# Altium integrated library ALTIUM-WCAP-FTBE-rev17a.IntLib: 31 symbols
Pins are listed as number, name and electrical type; pins without a type are passive.

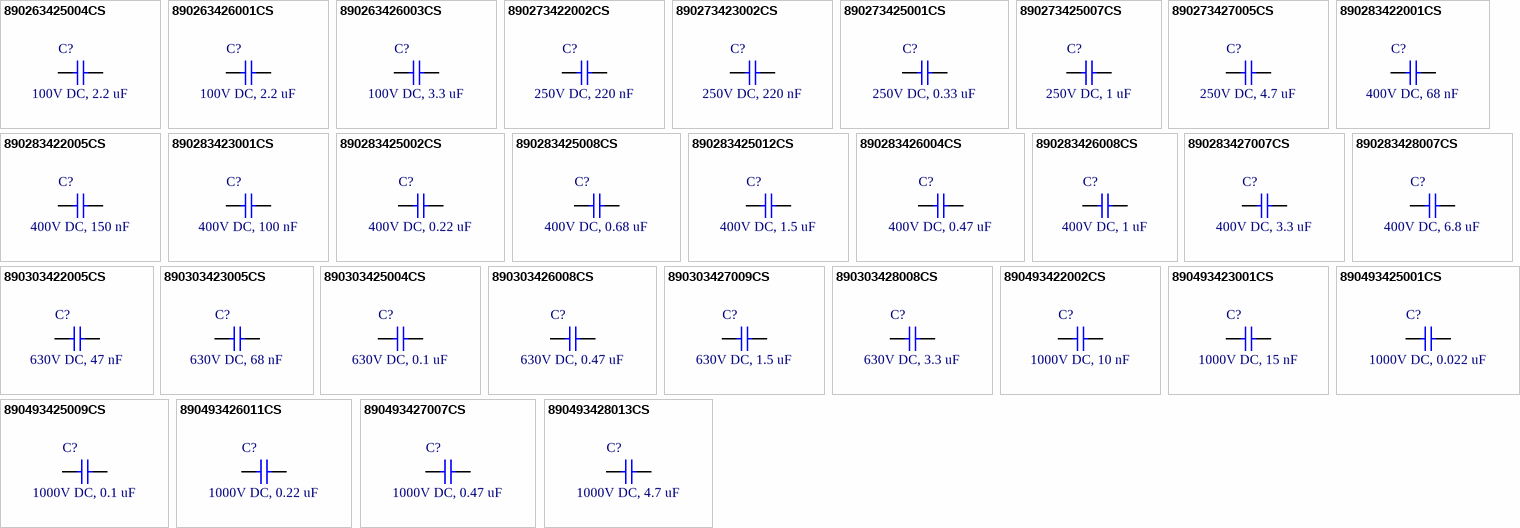
[diagram p0: symbols 890263425004CS to 890493428013CS]

## 890263425004CS
designator C?, comment 100V DC, 2.2 uF
WCAP-FTBE Film Capacitors, 18x8.5x15mm, 100V DC, 2.2 uF; Part Number: 890263425004CS; Rated Voltage: 100V DC; Value: 2.2 uF; ComponentLink1Description: Manufacturer; ComponentLink1URL: http://www.we-online.de; ComponentLink2Description: Datasheet; ComponentLink2URL: http://katalog.we-online.de/pbs/datasheet/890263425004CS.pdf; Published Date: Sep. 2017; Publisher: Wurth Elektronik; Size: 18x8.5x15mm; Operating Temperature: -40 °C to +85 °C
footprint WCAP-FTBE_18x8.5x15
pins: 1, 2

## 890263426001CS
designator C?, comment 100V DC, 2.2 uF
WCAP-FTBE Film Capacitors, 26x6x15mm, 100V DC, 2.2 uF; Part Number: 890263426001CS; Rated Voltage: 100V DC; Value: 2.2 uF; ComponentLink1Description: Manufacturer; ComponentLink1URL: http://www.we-online.de; ComponentLink2Description: Datasheet; ComponentLink2URL: http://katalog.we-online.de/pbs/datasheet/890263426001CS.pdf; Published Date: Sep. 2017; Publisher: Wurth Elektronik; Size: 26x6x15mm; Operating Temperature: -40 °C to +85 °C
footprint WCAP-FTBE_26x6x15
pins: 1, 2

## 890263426003CS
designator C?, comment 100V DC, 3.3 uF
WCAP-FTBE Film Capacitors, 26x7x16.5mm, 100V DC, 3.3 uF; Part Number: 890263426003CS; Rated Voltage: 100V DC; Value: 3.3 uF; ComponentLink1Description: Manufacturer; ComponentLink1URL: http://www.we-online.de; ComponentLink2Description: Datasheet; ComponentLink2URL: http://katalog.we-online.de/pbs/datasheet/890263426003CS.pdf; Published Date: Sep. 2017; Publisher: Wurth Elektronik; Size: 26x7x16.5mm; Operating Temperature: -40 °C to +85 °C
footprint WCAP-FTBE_26x7x16.5
pins: 1, 2

## 890273422002CS
designator C?, comment 250V DC, 220 nF
WCAP-FTBE Film Capacitors, 10.5x6x12mm, 250V DC, 220 nF; Part Number: 890273422002CS; Rated Voltage: 250V DC; Value: 220 nF; ComponentLink1Description: Manufacturer; ComponentLink1URL: http://www.we-online.de; ComponentLink2Description: Datasheet; ComponentLink2URL: http://katalog.we-online.de/pbs/datasheet/890273422002CS.pdf; Published Date: Sep. 2017; Publisher: Wurth Elektronik; Size: 10.5x6x12mm; Operating Temperature: -40 °C to +85 °C
footprint WCAP-FTBE_10.5x6x12
pins: 1, 2

## 890273423002CS
designator C?, comment 250V DC, 220 nF
WCAP-FTBE Film Capacitors, 13x5x11mm, 250V DC, 220 nF; Part Number: 890273423002CS; Rated Voltage: 250V DC; Value: 220 nF; ComponentLink1Description: Manufacturer; ComponentLink1URL: http://www.we-online.de; ComponentLink2Description: Datasheet; ComponentLink2URL: http://katalog.we-online.de/pbs/datasheet/890273423002CS.pdf; Published Date: Sep. 2017; Publisher: Wurth Elektronik; Size: 13x5x11mm; Operating Temperature: -40 °C to +85 °C
footprint WCAP-FTBE_13x5x11
pins: 1, 2

## 890273425001CS
designator C?, comment 250V DC, 0.33 uF
WCAP-FTBE Film Capacitors, 18x5x11mm, 250V DC, 0.33 uF; Part Number: 890273425001CS; Rated Voltage: 250V DC; Value: 0.33 uF; ComponentLink1Description: Manufacturer; ComponentLink1URL: http://www.we-online.de; ComponentLink2Description: Datasheet; ComponentLink2URL: http://katalog.we-online.de/pbs/datasheet/890273425001CS.pdf; Published Date: Sep. 2017; Publisher: Wurth Elektronik; Size: 18x5x11mm; Operating Temperature: -40 °C to +85 °C
footprint WCAP-FTBE_18x5x11
pins: 1, 2

## 890273425007CS
designator C?, comment 250V DC, 1 uF
WCAP-FTBE Film Capacitors, 18x7x13mm, 250V DC, 1 uF; Part Number: 890273425007CS; Rated Voltage: 250V DC; Value: 1 uF; ComponentLink1Description: Manufacturer; ComponentLink1URL: http://www.we-online.de; ComponentLink2Description: Datasheet; ComponentLink2URL: http://katalog.we-online.de/pbs/datasheet/890273425007CS.pdf; Published Date: Sep. 2017; Publisher: Wurth Elektronik; Size: 18x7x13mm; Operating Temperature: -40 °C to +85 °C
footprint WCAP-FTBE_18x7x13
pins: 1, 2

## 890273427005CS
designator C?, comment 250V DC, 4.7 uF
WCAP-FTBE Film Capacitors, 31x11x20mm, 250V DC, 4.7 uF; Part Number: 890273427005CS; Rated Voltage: 250V DC; Value: 4.7 uF; ComponentLink1Description: Manufacturer; ComponentLink1URL: http://www.we-online.de; ComponentLink2Description: Datasheet; ComponentLink2URL: http://katalog.we-online.de/pbs/datasheet/890273427005CS.pdf; Published Date: Sep. 2017; Publisher: Wurth Elektronik; Size: 31x11x20mm; Operating Temperature: -40 °C to +85 °C
footprint WCAP-FTBE_31x11x20
pins: 1, 2

## 890283422001CS
designator C?, comment 400V DC, 68 nF
WCAP-FTBE Film Capacitors, 10.5x5x11mm, 400V DC, 68 nF; Part Number: 890283422001CS; Rated Voltage: 400V DC; Value: 68 nF; ComponentLink1Description: Manufacturer; ComponentLink1URL: http://www.we-online.de; ComponentLink2Description: Datasheet; ComponentLink2URL: http://katalog.we-online.de/pbs/datasheet/890283422001CS.pdf; Published Date: Sep. 2017; Publisher: Wurth Elektronik; Size: 10.5x5x11mm; Operating Temperature: -40 °C to +85 °C
footprint WCAP-FTBE_10.5x5x11
pins: 1, 2

## 890283422005CS
designator C?, comment 400V DC, 150 nF
WCAP-FTBE Film Capacitors, 10.5x6x12mm, 400V DC, 150 nF; Part Number: 890283422005CS; Rated Voltage: 400V DC; Value: 150 nF; ComponentLink1Description: Manufacturer; ComponentLink1URL: http://www.we-online.de; ComponentLink2Description: Datasheet; ComponentLink2URL: http://katalog.we-online.de/pbs/datasheet/890283422005CS.pdf; Published Date: Sep. 2017; Publisher: Wurth Elektronik; Size: 10.5x6x12mm; Operating Temperature: -40 °C to +85 °C
footprint WCAP-FTBE_10.5x6x12
pins: 1, 2

## 890283423001CS
designator C?, comment 400V DC, 100 nF
WCAP-FTBE Film Capacitors, 13x5x11mm, 400V DC, 100 nF; Part Number: 890283423001CS; Rated Voltage: 400V DC; Value: 100 nF; ComponentLink1Description: Manufacturer; ComponentLink1URL: http://www.we-online.de; ComponentLink2Description: Datasheet; ComponentLink2URL: http://katalog.we-online.de/pbs/datasheet/890283423001CS.pdf; Published Date: Sep. 2017; Publisher: Wurth Elektronik; Size: 13x5x11mm; Operating Temperature: -40 °C to +85 °C
footprint WCAP-FTBE_13x5x11
pins: 1, 2

## 890283425002CS
designator C?, comment 400V DC, 0.22 uF
WCAP-FTBE Film Capacitors, 18x5x11mm, 400V DC, 0.22 uF; Part Number: 890283425002CS; Rated Voltage: 400V DC; Value: 0.22 uF; ComponentLink1Description: Manufacturer; ComponentLink1URL: http://www.we-online.de; ComponentLink2Description: Datasheet; ComponentLink2URL: http://katalog.we-online.de/pbs/datasheet/890283425002CS.pdf; Published Date: Sep. 2017; Publisher: Wurth Elektronik; Size: 18x5x11mm; Operating Temperature: -40 °C to +85 °C
footprint WCAP-FTBE_18x5x11
pins: 1, 2

## 890283425008CS
designator C?, comment 400V DC, 0.68 uF
WCAP-FTBE Film Capacitors, 18x8.5x15mm, 400V DC, 0.68 uF; Part Number: 890283425008CS; Rated Voltage: 400V DC; Value: 0.68 uF; ComponentLink1Description: Manufacturer; ComponentLink1URL: http://www.we-online.de; ComponentLink2Description: Datasheet; ComponentLink2URL: http://katalog.we-online.de/pbs/datasheet/890283425008CS.pdf; Published Date: Sep. 2017; Publisher: Wurth Elektronik; Size: 18x8.5x15mm; Operating Temperature: -40 °C to +85 °C
footprint WCAP-FTBE_18x8.5x15
pins: 1, 2

## 890283425012CS
designator C?, comment 400V DC, 1.5 uF
WCAP-FTBE Film Capacitors, 18x12x21mm, 400V DC, 1.5 uF; Part Number: 890283425012CS; Rated Voltage: 400V DC; Value: 1.5 uF; ComponentLink1Description: Manufacturer; ComponentLink1URL: http://www.we-online.de; ComponentLink2Description: Datasheet; ComponentLink2URL: http://katalog.we-online.de/pbs/datasheet/890283425012CS.pdf; Published Date: Sep. 2017; Publisher: Wurth Elektronik; Size: 18x12x21mm; Operating Temperature: -40 °C to +85 °C
footprint WCAP-FTBE_18x12x21
pins: 1, 2

## 890283426004CS
designator C?, comment 400V DC, 0.47 uF
WCAP-FTBE Film Capacitors, 26x6x15mm, 400V DC, 0.47 uF; Part Number: 890283426004CS; Rated Voltage: 400V DC; Value: 0.47 uF; ComponentLink1Description: Manufacturer; ComponentLink1URL: http://www.we-online.de; ComponentLink2Description: Datasheet; ComponentLink2URL: http://katalog.we-online.de/pbs/datasheet/890283426004CS.pdf; Published Date: Sep. 2017; Publisher: Wurth Elektronik; Size: 26x6x15mm; Operating Temperature: -40 °C to +85 °C
footprint WCAP-FTBE_26x6x15
pins: 1, 2

## 890283426008CS
designator C?, comment 400V DC, 1 uF
WCAP-FTBE Film Capacitors, 26x9x18mm, 400V DC, 1 uF; Part Number: 890283426008CS; Rated Voltage: 400V DC; Value: 1 uF; ComponentLink1Description: Manufacturer; ComponentLink1URL: http://www.we-online.de; ComponentLink2Description: Datasheet; ComponentLink2URL: http://katalog.we-online.de/pbs/datasheet/890283426008CS.pdf; Published Date: Sep. 2017; Publisher: Wurth Elektronik; Size: 26x9x18mm; Operating Temperature: -40 °C to +85 °C
footprint WCAP-FTBE_26x9x18
pins: 1, 2

## 890283427007CS
designator C?, comment 400V DC, 3.3 uF
WCAP-FTBE Film Capacitors, 31x15x24.5mm, 400V DC, 3.3 uF; Part Number: 890283427007CS; Rated Voltage: 400V DC; Value: 3.3 uF; ComponentLink1Description: Manufacturer; ComponentLink1URL: http://www.we-online.de; ComponentLink2Description: Datasheet; ComponentLink2URL: http://katalog.we-online.de/pbs/datasheet/890283427007CS.pdf; Published Date: Sep. 2017; Publisher: Wurth Elektronik; Size: 31x15x24.5mm; Operating Temperature: -40 °C to +85 °C
footprint WCAP-FTBE_31x15x24.5
pins: 1, 2

## 890283428007CS
designator C?, comment 400V DC, 6.8 uF
WCAP-FTBE Film Capacitors, 42x20.5x34mm, 400V DC, 6.8 uF; Part Number: 890283428007CS; Rated Voltage: 400V DC; Value: 6.8 uF; ComponentLink1Description: Manufacturer; ComponentLink1URL: http://www.we-online.de; ComponentLink2Description: Datasheet; ComponentLink2URL: http://katalog.we-online.de/pbs/datasheet/890283428007CS.pdf; Published Date: Sep. 2017; Publisher: Wurth Elektronik; Size: 42x20.5x34mm; Operating Temperature: -40 °C to +85 °C
footprint WCAP-FTBE_42x20.5x34
pins: 1, 2

## 890303422005CS
designator C?, comment 630V DC, 47 nF
WCAP-FTBE Film Capacitors, 10.5x6x12mm, 630V DC, 47 nF; Part Number: 890303422005CS; Rated Voltage: 630V DC; Value: 47 nF; ComponentLink1Description: Manufacturer; ComponentLink1URL: http://www.we-online.de; ComponentLink2Description: Datasheet; ComponentLink2URL: http://katalog.we-online.de/pbs/datasheet/890303422005CS.pdf; Published Date: Sep. 2017; Publisher: Wurth Elektronik; Size: 10.5x6x12mm; Operating Temperature: -40 °C to +85 °C
footprint WCAP-FTBE_10.5x6x12
pins: 1, 2

## 890303423005CS
designator C?, comment 630V DC, 68 nF
WCAP-FTBE Film Capacitors, 13x5.5x11mm, 630V DC, 68 nF; Part Number: 890303423005CS; Rated Voltage: 630V DC; Value: 68 nF; ComponentLink1Description: Manufacturer; ComponentLink1URL: http://www.we-online.de; ComponentLink2Description: Datasheet; ComponentLink2URL: http://katalog.we-online.de/pbs/datasheet/890303423005CS.pdf; Published Date: Sep. 2017; Publisher: Wurth Elektronik; Size: 13x5.5x11mm; Operating Temperature: -40 °C to +85 °C
footprint WCAP-FTBE_13x5.5x11
pins: 1, 2

## 890303425004CS
designator C?, comment 630V DC, 0.1 uF
WCAP-FTBE Film Capacitors, 18x6x12mm, 630V DC, 0.1 uF; Part Number: 890303425004CS; Rated Voltage: 630V DC; Value: 0.1 uF; ComponentLink1Description: Manufacturer; ComponentLink1URL: http://www.we-online.de; ComponentLink2Description: Datasheet; ComponentLink2URL: http://katalog.we-online.de/pbs/datasheet/890303425004CS.pdf; Published Date: Sep. 2017; Publisher: Wurth Elektronik; Size: 18x6x12mm; Operating Temperature: -40 °C to +85 °C
footprint WCAP-FTBE_18x6x12
pins: 1, 2

## 890303426008CS
designator C?, comment 630V DC, 0.47 uF
WCAP-FTBE Film Capacitors, 26x9x18mm, 630V DC, 0.47 uF; Part Number: 890303426008CS; Rated Voltage: 630V DC; Value: 0.47 uF; ComponentLink1Description: Manufacturer; ComponentLink1URL: http://www.we-online.de; ComponentLink2Description: Datasheet; ComponentLink2URL: http://katalog.we-online.de/pbs/datasheet/890303426008CS.pdf; Published Date: Sep. 2017; Publisher: Wurth Elektronik; Size: 26x9x18mm; Operating Temperature: -40 °C to +85 °C
footprint WCAP-FTBE_26x9x18
pins: 1, 2

## 890303427009CS
designator C?, comment 630V DC, 1.5 uF
WCAP-FTBE Film Capacitors, 31x15x24.5mm, 630V DC, 1.5 uF; Part Number: 890303427009CS; Rated Voltage: 630V DC; Value: 1.5 uF; ComponentLink1Description: Manufacturer; ComponentLink1URL: http://www.we-online.de; ComponentLink2Description: Datasheet; ComponentLink2URL: http://katalog.we-online.de/pbs/datasheet/890303427009CS.pdf; Published Date: Sep. 2017; Publisher: Wurth Elektronik; Size: 31x15x24.5mm; Operating Temperature: -40 °C to +85 °C
footprint WCAP-FTBE_31x15x24.5
pins: 1, 2

## 890303428008CS
designator C?, comment 630V DC, 3.3 uF
WCAP-FTBE Film Capacitors, 42x17x30mm, 630V DC, 3.3 uF; Part Number: 890303428008CS; Rated Voltage: 630V DC; Value: 3.3 uF; ComponentLink1Description: Manufacturer; ComponentLink1URL: http://www.we-online.de; ComponentLink2Description: Datasheet; ComponentLink2URL: http://katalog.we-online.de/pbs/datasheet/890303428008CS.pdf; Published Date: Sep. 2017; Publisher: Wurth Elektronik; Size: 42x17x30mm; Operating Temperature: -40 °C to +85 °C
footprint WCAP-FTBE_42x17x30
pins: 1, 2

## 890493422002CS
designator C?, comment 1000V DC, 10 nF
WCAP-FTBE Film Capacitors, 10.5x6x12mm, 1000V DC, 10 nF; Part Number: 890493422002CS; Value: 10 nF; ComponentLink1Description: Manufacturer; ComponentLink1URL: http://www.we-online.de; ComponentLink2Description: Datasheet; ComponentLink2URL: http://katalog.we-online.de/pbs/datasheet/890493422002CS.pdf; Published Date: Sep. 2017; Publisher: Wurth Elektronik; Rated Voltage: 1000V DC; Size: 10.5x6x12mm; Operating Temperature: -40 °C to +85 °C
footprint WCAP-FTBE_10.5x6x12
pins: 1, 2

## 890493423001CS
designator C?, comment 1000V DC, 15 nF
WCAP-FTBE Film Capacitors, 13x5x11mm, 1000V DC, 15 nF; Part Number: 890493423001CS; Value: 15 nF; ComponentLink1Description: Manufacturer; ComponentLink1URL: http://www.we-online.de; ComponentLink2Description: Datasheet; ComponentLink2URL: http://katalog.we-online.de/pbs/datasheet/890493423001CS.pdf; Published Date: Sep. 2017; Publisher: Wurth Elektronik; Rated Voltage: 1000V DC; Size: 13x5x11mm; Operating Temperature: -40 °C to +85 °C
footprint WCAP-FTBE_13x5x11
pins: 1, 2

## 890493425001CS
designator C?, comment 1000V DC, 0.022 uF
WCAP-FTBE Film Capacitors, 18x5x11mm, 1000V DC, 0.022 uF; Part Number: 890493425001CS; ComponentLink1Description: Manufacturer; ComponentLink1URL: http://www.we-online.de; ComponentLink2Description: Datasheet; ComponentLink2URL: http://katalog.we-online.de/pbs/datasheet/890493425001CS.pdf; Published Date: Sep. 2017; Publisher: Wurth Elektronik; Rated Voltage: 1000V DC; Size: 18x5x11mm; Operating Temperature: -40 °C to +85 °C; Value: 0.022 uF
footprint WCAP-FTBE_18x5x11
pins: 1, 2

## 890493425009CS
designator C?, comment 1000V DC, 0.1 uF
WCAP-FTBE Film Capacitors, 18x8.5x15mm, 1000V DC, 0.1 uF; Part Number: 890493425009CS; Value: 0.1 uF; ComponentLink1Description: Manufacturer; ComponentLink1URL: http://www.we-online.de; ComponentLink2Description: Datasheet; ComponentLink2URL: http://katalog.we-online.de/pbs/datasheet/890493425009CS.pdf; Published Date: Sep. 2017; Publisher: Wurth Elektronik; Rated Voltage: 1000V DC; Size: 18x8.5x15mm; Operating Temperature: -40 °C to +85 °C
footprint WCAP-FTBE_18x8.5x15
pins: 1, 2

## 890493426011CS
designator C?, comment 1000V DC, 0.22 uF
WCAP-FTBE Film Capacitors, 26x9x18mm, 1000V DC, 0.22 uF; Part Number: 890493426011CS; Value: 0.22 uF; ComponentLink1Description: Manufacturer; ComponentLink1URL: http://www.we-online.de; ComponentLink2Description: Datasheet; ComponentLink2URL: http://katalog.we-online.de/pbs/datasheet/890493426011CS.pdf; Published Date: Sep. 2017; Publisher: Wurth Elektronik; Rated Voltage: 1000V DC; Size: 26x9x18mm; Operating Temperature: -40 °C to +85 °C
footprint WCAP-FTBE_26x9x18
pins: 1, 2

## 890493427007CS
designator C?, comment 1000V DC, 0.47 uF
WCAP-FTBE Film Capacitors, 31x11x20mm, 1000V DC, 0.47 uF; Part Number: 890493427007CS; Value: 0.47 uF; ComponentLink1Description: Manufacturer; ComponentLink1URL: http://www.we-online.de; ComponentLink2Description: Datasheet; ComponentLink2URL: http://katalog.we-online.de/pbs/datasheet/890493427007CS.pdf; Published Date: Sep. 2017; Publisher: Wurth Elektronik; Rated Voltage: 1000V DC; Size: 31x11x20mm; Operating Temperature: -40 °C to +85 °C
footprint WCAP-FTBE_31x11x20
pins: 1, 2

## 890493428013CS
designator C?, comment 1000V DC, 4.7 uF
WCAP-FTBE Film Capacitors, 42x31x43mm, 1000V DC, 4.7 uF; Part Number: 890493428013CS; Value: 4.7 uF; ComponentLink1Description: Manufacturer; ComponentLink1URL: http://www.we-online.de; ComponentLink2Description: Datasheet; ComponentLink2URL: http://katalog.we-online.de/pbs/datasheet/890493428013CS.pdf; Published Date: Sep. 2017; Publisher: Wurth Elektronik; Rated Voltage: 1000V DC; Size: 42x31x43mm; Operating Temperature: -40 °C to +85 °C
footprint WCAP-FTBE_42x31x43
pins: 1, 2